# EAGLE library part STM32F20X (library cTechnologies_integratedCircuits)
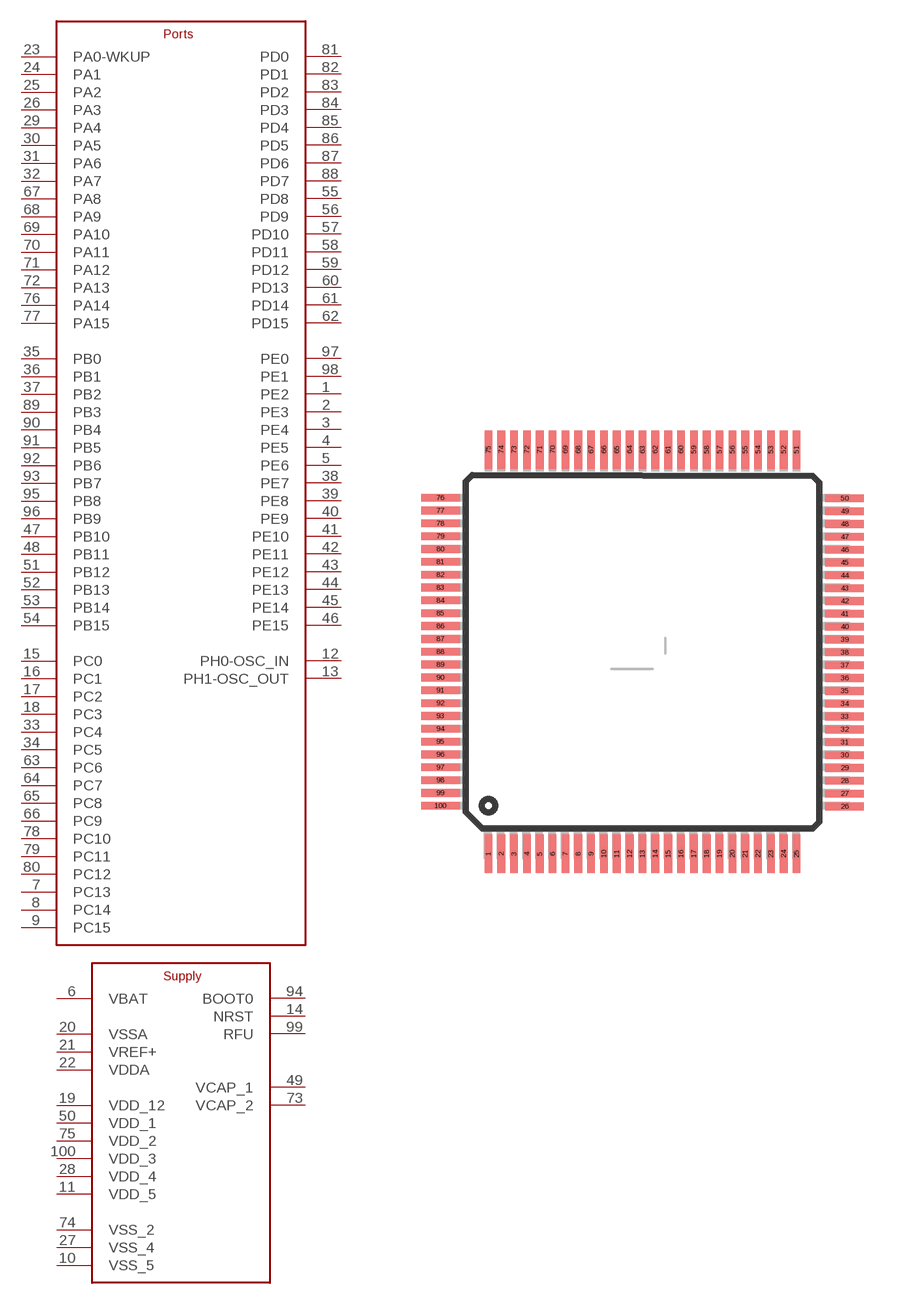
[diagram p6: symbol with the pads of LQFP100; footprint LQFP100]

Designator prefix -

## STM32F20XV_T  [LQFP100]
1  PE2
2  PE3
3  PE4
4  PE5
5  PE6
6  VBAT
7  PC13
8  PC14
9  PC15
10  VSS_5
11  VDD_5
12  PH0-OSC_IN
13  PH1-OSC_OUT
14  NRST
15  PC0
16  PC1
17  PC2
18  PC3
19  VDD_12
20  VSSA
21  VREF+
22  VDDA
23  PA0-WKUP
24  PA1
25  PA2
26  PA3
27  VSS_4
28  VDD_4
29  PA4
30  PA5
31  PA6
32  PA7
33  PC4
34  PC5
35  PB0
36  PB1
37  PB2
38  PE7
39  PE8
40  PE9
41  PE10
42  PE11
43  PE12
44  PE13
45  PE14
46  PE15
47  PB10
48  PB11
49  VCAP_1
50  VDD_1
51  PB12
52  PB13
53  PB14
54  PB15
55  PD8
56  PD9
57  PD10
58  PD11
59  PD12
60  PD13
61  PD14
62  PD15
63  PC6
64  PC7
65  PC8
66  PC9
67  PA8
68  PA9
69  PA10
70  PA11
71  PA12
72  PA13
73  VCAP_2
74  VSS_2
75  VDD_2
76  PA14
77  PA15
78  PC10
79  PC11
80  PC12
81  PD0
82  PD1
83  PD2
84  PD3
85  PD4
86  PD5
87  PD6
88  PD7
89  PB3
90  PB4
91  PB5
92  PB6
93  PB7
94  BOOT0
95  PB8
96  PB9
97  PE0
98  PE1
99  RFU
100  VDD_3

## Footprint LQFP100 (pad centres in mm)
LQFP 100 Source: 6120s.pdf
smd 0.3 x 1.5: 1 -6,-7.875; 2 -5.5,-7.875; 3 -5,-7.875; 4 -4.5,-7.875; 5 -4,-7.875; 6 -3.5,-7.875; 7 -3,-7.875; 8 -2.5,-7.875; 9 -2,-7.875; 10 -1.5,-7.875; 11 -1,-7.875; 12 -0.5,-7.875; 13 0,-7.875; 14 0.5,-7.875; 15 1,-7.875; 16 1.5,-7.875; 17 2,-7.875; 18 2.5,-7.875; 19 3,-7.875; 20 3.5,-7.875; 21 4,-7.875; 22 4.5,-7.875; 23 5,-7.875; 24 5.5,-7.875; 25 6,-7.875; 51 6,7.875; 52 5.5,7.875; 53 5,7.875; 54 4.5,7.875; 55 4,7.875; 56 3.5,7.875; 57 3,7.875; 58 2.5,7.875; 59 2,7.875; 60 1.5,7.875; 61 1,7.875; 62 0.5,7.875; 63 0,7.875; 64 -0.5,7.875; 65 -1,7.875; 66 -1.5,7.875; 67 -2,7.875; 68 -2.5,7.875; 69 -3,7.875; 70 -3.5,7.875; 71 -4,7.875; 72 -4.5,7.875; 73 -5,7.875; 74 -5.5,7.875; 75 -6,7.875
smd 1.5 x 0.3: 26 7.875,-6.025; 27 7.875,-5.525; 28 7.875,-5.025; 29 7.875,-4.525; 30 7.875,-4.025; 31 7.875,-3.525; 32 7.875,-3.025; 33 7.875,-2.525; 34 7.875,-2.025; 35 7.875,-1.525; 36 7.875,-1.025; 37 7.875,-0.525; 38 7.875,-0.025; 39 7.875,0.475; 40 7.875,0.975; 41 7.875,1.475; 42 7.875,1.975; 43 7.875,2.475; 44 7.875,2.975; 45 7.875,3.475; 46 7.875,3.975; 47 7.875,4.475; 48 7.875,4.975; 49 7.875,5.475; 50 7.875,5.975; 76 -7.875,6; 77 -7.875,5.5; 78 -7.875,5; 79 -7.875,4.5; 80 -7.875,4; 81 -7.875,3.5; 82 -7.875,3; 83 -7.875,2.5; 84 -7.875,2; 85 -7.875,1.5; 86 -7.875,1; 87 -7.875,0.5; 88 -7.875,0; 89 -7.875,-0.5; 90 -7.875,-1; 91 -7.875,-1.5; 92 -7.875,-2; 93 -7.875,-2.5; 94 -7.875,-3; 95 -7.875,-3.5; 96 -7.875,-4; 97 -7.875,-4.5; 98 -7.875,-5; 99 -7.875,-5.5; 100 -7.875,-6